# Altium footprint library BatteruPSU.PcbLib: 42 footprints (part 2 of 3)
Each footprint in its own frame and in the unit in brackets; x right, y up, seen from the top. Pads: shape width x height; smd on the part's side, far side on the other; paste and mask are expansions set on the pad; w line width, h text height; cw(c..) or ccw(c..) is an arc to the next point about the centre after c.
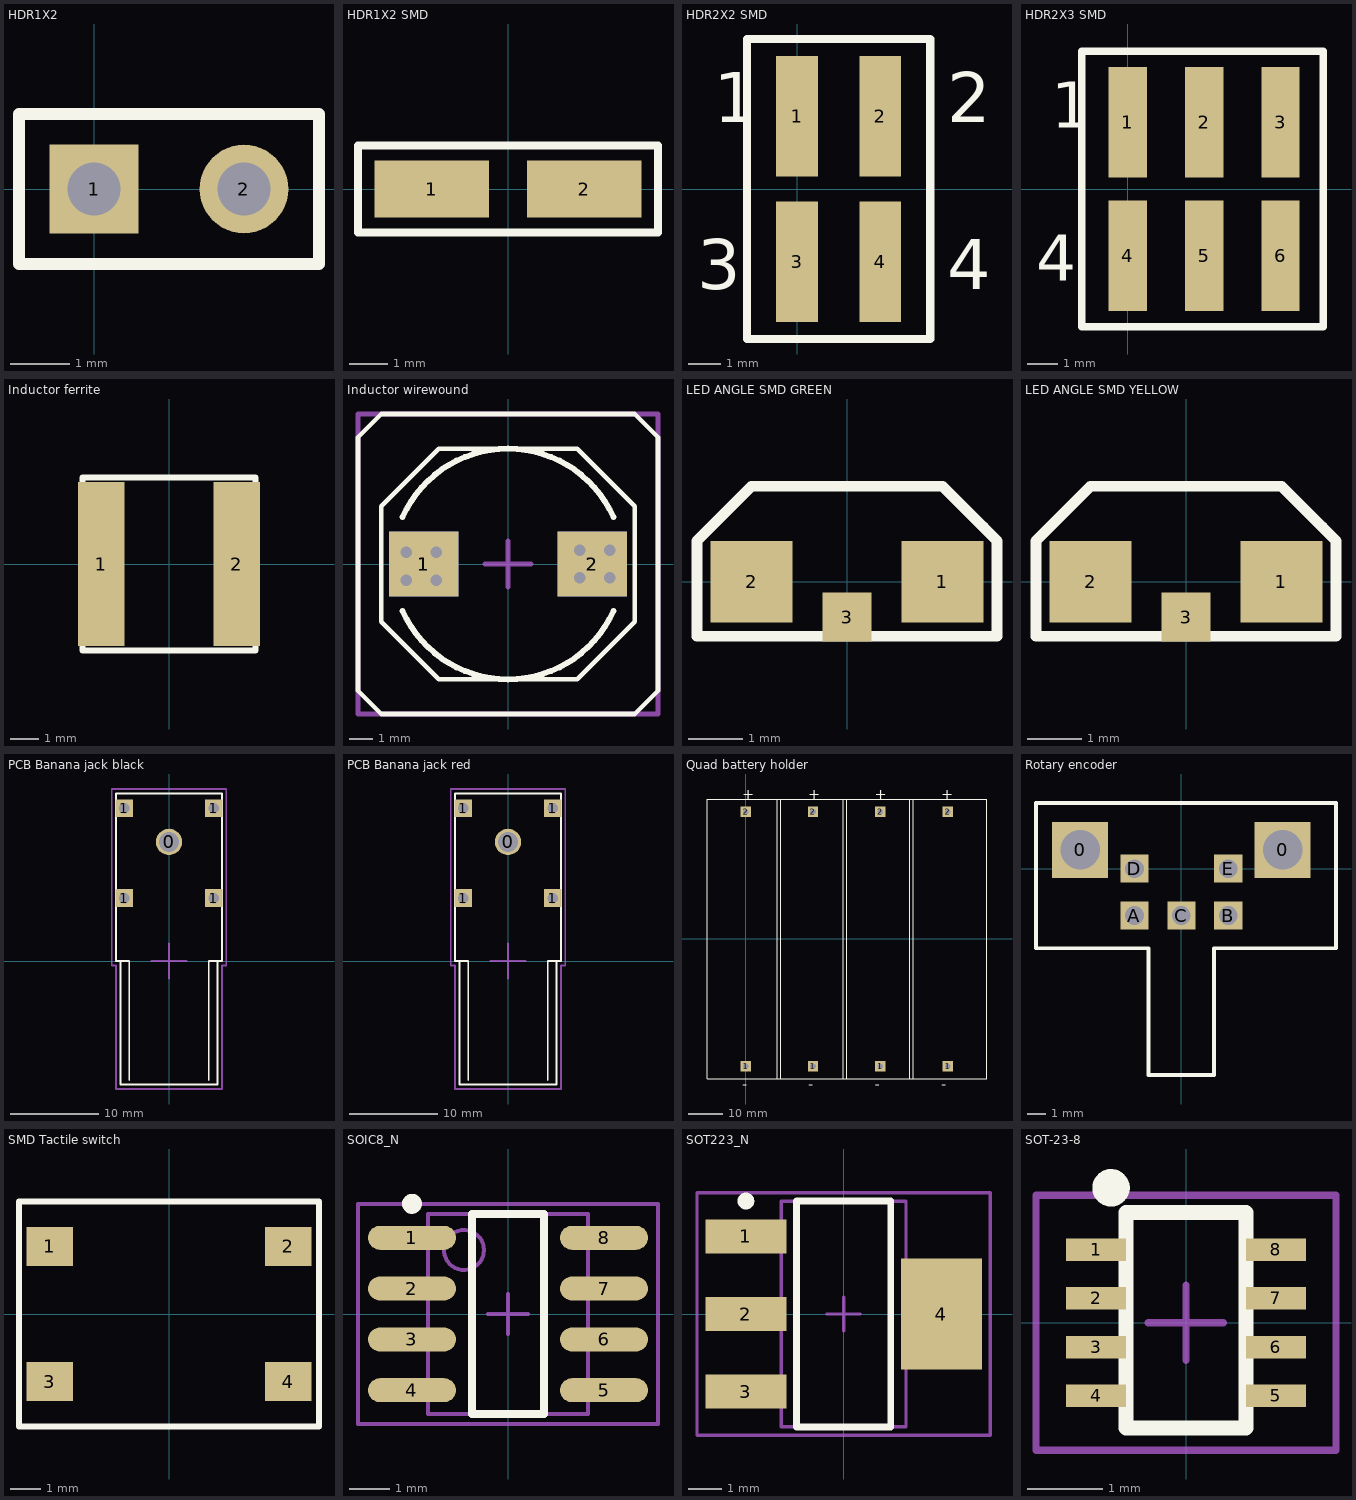
[diagram p1: the footprints below, top view; thin cyan lines are the x and y axes]

## HDR1X2 [mm] "Connector; Header; 2 Position"
pads (2):
  rect 1.5x1.5 hole 0.9: 1(0,0)
  round 1.5 hole 0.9: 2(2.54,0)
Top Overlay:
  lines w0.2: -1.27,-1.27 -1.27,1.27 3.81,1.27 3.81,-1.27 -1.27,-1.27
3D body: height 8.49, standoff -2.49, extent -1.24,-1.24 3.84,1.3

## HDR1X2 SMD [mm]
height 3
pads (2):
  rect 3x1.5 smd: 1(-2,0) 2(2,0)
Top Overlay:
  lines w0.2: -3.937,-1.143 3.937,-1.143 3.937,1.143 -3.937,1.143 -3.937,-1.143
3D body: height 4.5, standoff 0, extent -2.75,-0.635 2.75,0.635

## HDR2X2 SMD [mm] "HDR2X2 SMD"
height 10
pads (4):
  rect 1.27x3.68 smd: 1(0,2.22) 2(2.54,2.22) 3(0,-2.22) 4(2.54,-2.22)
Top Overlay:
  lines w0.254: -1.524,-4.572 4.064,-4.572 4.064,4.572 3.556,4.572 -1.524,4.572 -1.524,-4.572
  text "4" at 4.572,-3.048 h1.52
  text "3" at -3.048,-3.048 h1.52
  text "2" at 4.572,2.032 h1.52
  text "1" at -2.54,2.032 h1.52
3D body: height 12.54, standoff 0.02, extent -3.853,-3.7 3.7,3.7

## HDR2X3 SMD [mm]
height 10
pads (6):
  rect 1.27x3.68 smd: 1(0,2.22) 2(2.54,2.22) 3(5.08,2.22) 4(0,-2.22) 5(2.54,-2.22) 6(5.08,-2.22)
Top Overlay:
  lines w0.254: -1.524,-4.572 6.5,-4.572 6.5,4.572 3.556,4.572 -1.524,4.572 -1.524,-4.572
  text "4" at -3.048,-3.048 h1.52
  text "1" at -2.54,2.032 h1.52
3D body: height 12.54, standoff 0.02, extent -1.303,-3.7 6.25,3.7

## Inductor ferrite [mm] "TAIYO YUDEN SMD POWER INDUCTOR"
height 1
pads (2):
  rect 1.6x5.7 smd: 1(-2.35,0) 2(2.35,0)
Top Overlay:
  lines w0.2: -3,-3 -3,3 3,3 3,-3 -3,-3
3D body: height 1.8, standoff 0.1, extent -3,-3 3,3

## Inductor wirewound [mm] "Bourns SRR1005 series wirewbound inductor"
height 5.2
pads (4):
  rect 3x2.8 smd: 1(-3.65,0) 2(3.65,0)
  rect 3x2.8 smd far side: 1(-3.65,0) 2(3.65,0)
via 4.4,0.6 diameter 1 hole 0.5
via -4.4,0.5 diameter 1 hole 0.5
via -3.1,0.5 diameter 1 hole 0.5
via -3.1,-0.7 diameter 1 hole 0.5
via -4.4,-0.7 diameter 1 hole 0.5
via 3.1,-0.6 diameter 1 hole 0.5
via 4.4,-0.6 diameter 1 hole 0.5
via 3.1,0.6 diameter 1 hole 0.5
Top Overlay:
  lines w0.2: -6.5,-5.5 -5.5,-6.5 5.5,-6.5 6.5,-5.5 6.5,5.5 5.5,6.5 -5.5,6.5 -6.5,5.5 -6.5,-5.5 ; -5.5,-2.5 -5.5,2.5 -3,5 0,5 3,5 5.5,2.5 5.5,-2.5 3,-5 -3,-5 -5.5,-2.5
  lines w0.254: -4.569,-2.031 ccw(c0,0) 4.569,-2.031 ; -4.569,2.031 cw(c0,0) 4.569,2.031
Mechanical 15:
  lines w0.2: -1,0 1,0 ; 0,-1 0,1 ; -6.5,-6.5 6.5,-6.5 6.5,6.5 -6.5,6.5 -6.5,-6.5
3D body: height 7.51, standoff 0, extent -6.25,-6.25 6.25,6.25

## LED ANGLE SMD GREEN [mm] "Knightbright APA3010 - series"
height 1
pads (3):
  rect 1.5x1.5 smd: 1(1.75,0) 2(-1.75,0)
  rect 0.9x0.9 smd: 3(0,-0.65)
Top Overlay:
  lines w0.2: 2.5,1 1.75,1.75 -1.75,1.75 -2.75,0.75 -2.75,-1 2.75,-1 2.75,0.75 2.5,1 ; 2.5,1 2.5,1
3D body: height 1, standoff 0, extent -1.5,-0.45 1.5,1.55

## LED ANGLE SMD YELLOW [mm] "Knightbright APA3010 - series"
height 1
pads (3):
  rect 1.5x1.5 smd: 1(1.75,0) 2(-1.75,0)
  rect 0.9x0.9 smd: 3(0,-0.65)
Top Overlay:
  lines w0.2: 2.5,1 2.75,0.75 2.75,-1 -2.75,-1 -2.75,0.75 -1.75,1.75 1.75,1.75 2.5,1 ; 2.5,1 2.5,1
3D body: height 1, standoff 0, extent -1.5,-0.45 1.5,1.55

## PCB Banana jack black [mm] "Cliff 4mm Panel Socket S16N-PC"
height 11.5
pads (5):
  round 3 hole 2.3 unplated paste+0 mask+0: 0(0,13.5)
  rect 2x2 hole 1.2: 1(-5.08,7.14) 1(-5.08,17.3) 1(5.08,7.14) 1(5.08,17.3)
Top Overlay:
  lines w0.2: -5.5,0 -5.5,-14 5.5,-14 5.5,0 ; -4.5,-13.5 -4.5,0 -6,0 -6,19 6,19 6,0 4.5,0 4.5,-13.5
Mechanical 15:
  lines w0.2: -2,0 2,0 ; 0,-2 0,2 ; -6.5,-0.5 -6.5,19.5 6.5,19.5 6.5,-0.5 6,-0.5 6,-14.5 -6,-14.5 -6,-0.5 -6.5,-0.5
3D body: height 11.5, standoff -3.4, extent -5.9,-14.1 6.1,18.9

## PCB Banana jack red [mm] "Cliff 4mm Panel Socket S16N-PC"
height 11.5
pads (5):
  round 3 hole 2.3 unplated paste+0 mask+0: 0(0,13.5)
  rect 2x2 hole 1.2: 1(-5.08,7.14) 1(-5.08,17.3) 1(5.08,7.14) 1(5.08,17.3)
Top Overlay:
  lines w0.2: -5.5,0 -5.5,-14 5.5,-14 5.5,0 ; -4.5,-13.5 -4.5,0 -6,0 -6,19 6,19 6,0 4.5,0 4.5,-13.5
Mechanical 15:
  lines w0.2: -2,0 2,0 ; 0,-2 0,2 ; -6.5,-0.5 -6,-0.5 -6,-14.5 6,-14.5 6,-0.5 6.5,-0.5 6.5,19.5 -6.5,19.5 -6.5,-0.5
3D body: height 11.5, standoff -3.4, extent -6,-14.1 6,18.9

## Quad battery holder [mm] "Quad Li-Ion 18650"
height 21
pads (8):
  rect 3x3 hole 1.6: 1(0,-36.45) 1(19.3,-36.45) 1(38.6,-36.45) 1(57.9,-36.45) 2(0,36.45) 2(19.3,36.45) 2(38.6,36.45) 2(57.9,36.45)
Top Overlay:
  lines w0.254: 9,-40 9,40 ; 10,-40 10,40 ; 28,-40 28,40 ; 29,-40 29,40 ; 47,-40 47,40 ; 48,-40 48,40 ; -11,-40 69.1,-40 69.1,40 -11,40 -11,-40
  text "+" at 18,40 h3
  text "-" at 56,-43 h3
  text "-" at -1,-43 h3
  text "-" at 37,-43 h3
  text "-" at 18,-43 h3
  text "+" at 37,40 h3
  text "+" at -1,40 h3
  text "+" at 56,40 h3
3D body: height 22, standoff -4, extent -10.5,-39 68.5,39

## Rotary encoder [mm] "Bourns quad rot enc w/ push"
height 13
pads (7):
  rect 3x3 hole 2.1 square: 0(-5.4,1) 0(5.4,1)
  rect 1.5x1.5 hole 1: A(-2.5,-2.5) B(2.5,-2.5) C(0,-2.5) D(-2.5,0) E(2.5,0)
Top Overlay:
  lines w0.2: -7.75,-4.25 -7.75,3.5 8.25,3.5 8.25,-4.25 1.75,-4.25 1.75,-10.75 1.75,-11 -1.75,-11 -1.75,-4.25 -7.75,-4.25
3D body: height 14.33, standoff -0.5, extent -6.558,-13.5 7.095,5.981

## SMD Tactile switch [mm] "PTS645S"
height 5
pads (4):
  rect 1.55x1.3 smd: 1(-3.975,2.25) 2(3.975,2.25) 3(-3.975,-2.25) 4(3.975,-2.25)
Top Overlay:
  lines w0.2: -5,-3.75 -5,3.75 5,3.75 5,-3.75 -5,-3.75
3D body: height 7, standoff 0, extent -4.5,-3 4.5,3

## SOIC8_N [mm] "SOIC, 8-Leads, Body 4.9x3.9mm, Pitch 1.27mm, IPC Medium Density"
height 1.75
pads (8):
  oval 2.2x0.6 smd: 1(-2.4,1.905) 2(-2.4,0.635) 3(-2.4,-0.635) 4(-2.4,-1.905) 5(2.4,-1.905) 6(2.4,-0.635) 7(2.4,0.635) 8(2.4,1.905)
Top Overlay:
  circle w0.25: c-2.4,2.755 r0.125
  lines w0.2: -0.9,-2.5 -0.9,2.5 0.9,2.5 0.9,-2.5 -0.9,-2.5
Mechanical 13:
  circle w0.1: c-1.1,1.6 r0.5
  lines w0.1: -2,-2.5 -2,2.5 2,2.5 2,-2.5 -2,-2.5
Mechanical 15:
  lines w0.1: -0.5,0 0.5,0 ; 0,-0.5 0,0.5 ; -3.75,-2.75 -3.75,2.75 3.75,2.75 3.75,-2.75 -3.75,-2.75
3D body: height 1.65, standoff -0.1, extent -3,-2.45 3,2.45

## SOT223_N [mm] "SOT223, 4-Leads, Body 6.5x3.5mm, Pitch 2.3mm, Lead Span 7mm, IPC Medium Density"
height 1.7
pads (4):
  rect 2.4x1 smd: 1(-2.9,2.3) 2(-2.9,0) 3(-2.9,-2.3)
  rect 2.4x3.3 smd: 4(2.9,0)
Top Overlay:
  circle w0.25: c-2.9,3.35 r0.125
  lines w0.2: -1.4,-3.35 1.4,-3.35 1.4,3.35 -1.4,3.35 -1.4,-3.35
Mechanical 13:
  lines w0.1: -1.85,-3.35 1.85,-3.35 1.85,3.35 -1.85,3.35 -1.85,-3.35
Mechanical 15:
  lines w0.1: -0.5,0 0.5,0 ; 0,-0.5 0,0.5 ; -4.35,-3.6 4.35,-3.6 4.35,3.6 -4.35,3.6 -4.35,-3.6
3D body: height 1.59, standoff -0.06, extent -3.5,-3.25 3.5,3.25

## SOT-23-8 [mm]
height 1.75
pads (8):
  rect 0.8x0.3 smd: 1(-1.2,0.975) 2(-1.2,0.325) 3(-1.2,-0.325) 4(-1.2,-0.975) 5(1.2,-0.975) 6(1.2,-0.325) 7(1.2,0.325) 8(1.2,0.975)
Top Overlay:
  circle w0.25: c-1,1.8 r0.125
  lines w0.2: -0.8,-1.4 -0.8,1.47 0.8,1.47 0.8,-1.4 -0.8,-1.4
Mechanical 13:
  lines w0.1: -0.869,1.769 cw(c-1,1.8) -0.866,1.782 ; -2,-1.7 -2,1.7 2,1.7 2,-1.7 -2,-1.7
Mechanical 15:
  lines w0.1: -0.5,0 0.5,0 ; 0,-0.5 0,0.5 ; -2,-1.7 -2,1.7 2,1.7 2,-1.7 -2,-1.7
3D body: height 1, standoff 0, extent -1.4,-1.45 1.4,1.45